# EAGLE library part CRUMB168-USB (library chip45_EagleLib_090813)
Crumb168-USB Crumb168-USB is a higly integrated rapid prototyping module with the ATmega168 AVR microcontroller by Atmel.
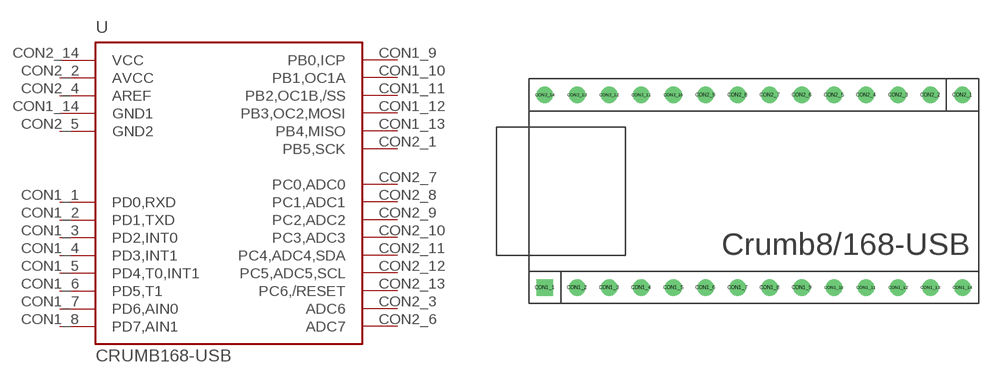
[diagram p5: symbol with the pads of CRUMB8/168-USB; footprint CRUMB8/168-USB]

Designator prefix -

## CRUMB168-USB (EEPROM: 512 Byte; FLASH: 16 kB; PERIPHERALS: CP2102 USB-UART converter; PROCESSOR: ATmega168; RAM: 1 kB SRAM)  [CRUMB8/168-USB]
CON1_1  PD0,RXD
CON1_2  PD1,TXD
CON1_3  PD2,INT0
CON1_4  PD3,INT1
CON1_5  PD4,T0,INT1
CON1_6  PD5,T1
CON1_7  PD6,AIN0
CON1_8  PD7,AIN1
CON1_9  PB0,ICP
CON1_10  PB1,OC1A
CON1_11  PB2,OC1B,/SS
CON1_12  PB3,OC2,MOSI
CON1_13  PB4,MISO
CON1_14  GND1  pwr
CON2_1  PB5,SCK
CON2_2  AVCC  in
CON2_3  ADC6  in
CON2_4  AREF  in
CON2_5  GND2  pwr
CON2_6  ADC7  in
CON2_7  PC0,ADC0
CON2_8  PC1,ADC1
CON2_9  PC2,ADC2
CON2_10  PC3,ADC3
CON2_11  PC4,ADC4,SDA
CON2_12  PC5,ADC5,SCL
CON2_13  PC6,/RESET
CON2_14  VCC  pwr

## Footprint CRUMB8/168-USB (pad centres in mm)
Crumb8/168-USB ATmega8/168 OEM microcontroller module with CP2102 USB-UART converter, 14.7456MHz XTAL crystal (ATmega168: 20MHz XTAL), ISP header, expansion headers.
drill 0.8 square: CON1_1 -16.51,-7.62
drill 0.8 round: CON1_2 -13.97,-7.62; CON1_3 -11.43,-7.62; CON1_4 -8.89,-7.62; CON1_5 -6.35,-7.62; CON1_6 -3.81,-7.62; CON1_7 -1.27,-7.62; CON1_8 1.27,-7.62; CON1_9 3.81,-7.62; CON1_10 6.35,-7.62; CON1_11 8.89,-7.62; CON1_12 11.43,-7.62; CON1_13 13.97,-7.62; CON1_14 16.51,-7.62; CON2_1 16.51,7.62; CON2_2 13.97,7.62; CON2_3 11.43,7.62; CON2_4 8.89,7.62; CON2_5 6.35,7.62; CON2_6 3.81,7.62; CON2_7 1.27,7.62; CON2_8 -1.27,7.62; CON2_9 -3.81,7.62; CON2_10 -6.35,7.62; CON2_11 -8.89,7.62; CON2_12 -11.43,7.62; CON2_13 -13.97,7.62; CON2_14 -16.51,7.62